# Altium schematic symbol library SKSLLBE010.SchLib: 1 symbol
Pins are listed as number, name and electrical type; pins without a type are passive.

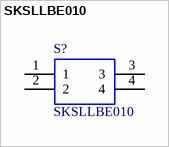
[diagram p0: symbol SKSLLBE010]

## SKSLLBE010
designator S?
Black Button Tactile Switch, SPST-NO 50 mA 0.5mm Surface Mount; Manufacturer_Name: ALPS; Geometry.Height: 2mm; Mouser Part Number: 688-SKSLLBE010; Manufacturer_Part_Number: SKSLLBE010; Datasheet Link: https://componentsearchengine.com/Datasheets/1/SKSLLBE010.pdf
footprint SKSLLBE010
pins: 1, 2, 3, 4